# EAGLE library part SKB369 (library SKB369)
SKB369 Multiprotocol Bluetooth 4.2 /ANT Low Energy Module Datasheet
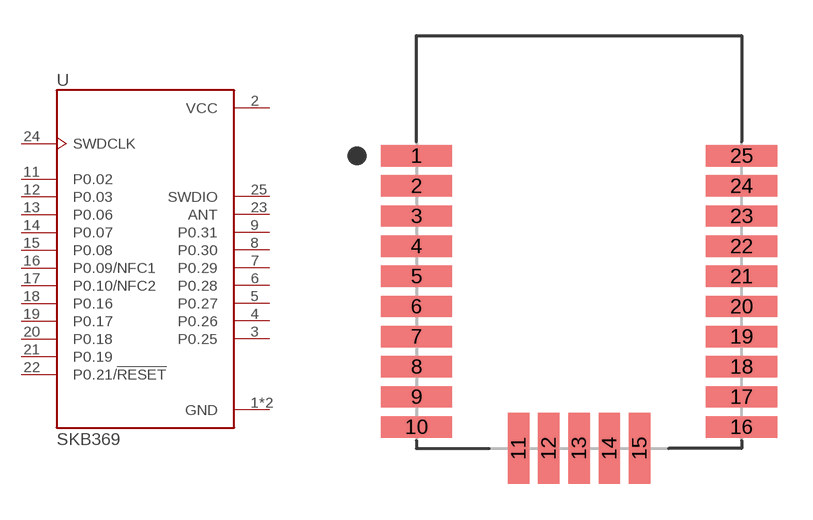
[diagram p0: symbol with the pads of SKYLAB_SKB369; footprint SKYLAB_SKB369]

Designator prefix U

## SKB369 (Availability: Unavailable; Description: SKB369 Multiprotocol Bluetooth 4.2 /ANT Low Energy Module Datasheet; MF: Skylab; MP: SKB369; Package: Package Analog Devices; Price: None)  [SKYLAB_SKB369]
1  GND  pwr
2  VCC  pwr
3  P0.25
4  P0.26
5  P0.27
6  P0.28
7  P0.29
8  P0.30
9  P0.31
10  GND  pwr
11  P0.02
12  P0.03
13  P0.06
14  P0.07
15  P0.08
16  P0.09/NFC1
17  P0.10/NFC2
18  P0.16
19  P0.17
20  P0.18
21  P0.19
22  P0.21/!RESET
23  ANT
24  SWDCLK  in
25  SWDIO

## Footprint SKYLAB_SKB369 (pad centres in mm)
smd 3 x 0.9: 1 -6.85,3.63; 2 -6.85,2.36; 3 -6.85,1.09; 4 -6.85,-0.18; 5 -6.85,-1.45; 6 -6.85,-2.72; 7 -6.85,-3.99; 8 -6.85,-5.26; 9 -6.85,-6.53; 10 -6.85,-7.8; 16 6.85,-7.8; 17 6.85,-6.53; 18 6.85,-5.26; 19 6.85,-3.99; 20 6.85,-2.72; 21 6.85,-1.45; 22 6.85,-0.18; 23 6.85,1.09; 24 6.85,2.36; 25 6.85,3.63
smd 0.9 x 3: 11 -2.55,-8.7; 12 -1.28,-8.7; 13 0,-8.7; 14 1.28,-8.7; 15 2.55,-8.7